# Altium schematic symbol library MSPM0G3507SPMR.SchLib: 1 symbol
Pins are listed as number, name and electrical type; pins without a type are passive.

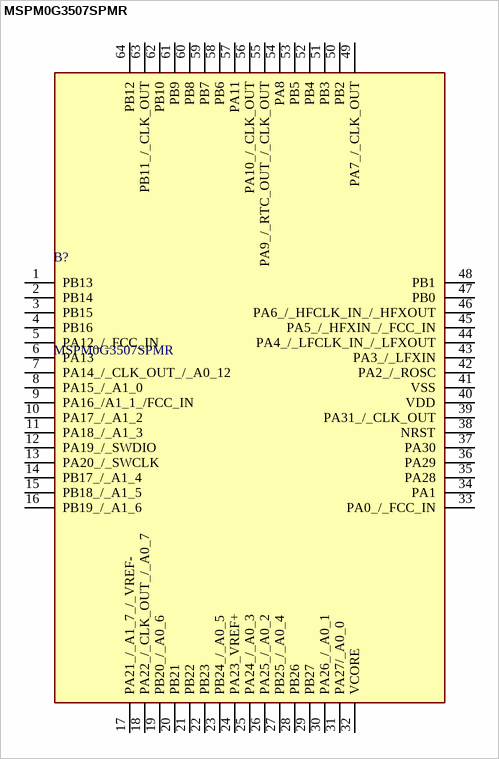
[diagram p0: symbol MSPM0G3507SPMR]

## MSPM0G3507SPMR
designator B?
ARM Microcontrollers - MCU 80MHz Arm M0+ MCU, 128KB Flash, 32KB SRAM, 212bit 4Msps ADC, DAC, 3COMP, 3op-amp, CAN-FD, MATHACL 64-LQFP -40 to 125; Manufacturer_Name: Texas Instruments; Geometry.Height: 1.6mm; Mouser Part Number: 595-MSPM0G3507SPMR; Mouser Price/Stock: https://www.mouser.co.uk/ProductDetail/Texas-Instruments/MSPM0G3507SPMR?qs=ST9lo4GX8V0tukxOtqK%252B6A%3D%3D; Manufacturer_Part_Number: MSPM0G3507SPMR; Datasheet Link: https://www.ti.com/lit/ds/symlink/mspm0g3505.pdf?ts=1706855132968
footprint QFP50P1200X1200X160-64N
pins: 1 PB13, 2 PB14, 3 PB15, 4 PB16, 5 PA12_/_FCC_IN, 6 PA13, 7 PA14_/_CLK_OUT_/_A0_12, 8 PA15_/_A1_0, 9 PA16_/A1_1_/FCC_IN, 10 PA17_/_A1_2, 11 PA18_/_A1_3, 12 PA19_/_SWDIO, 13 PA20_/_SWCLK, 14 PB17_/_A1_4, 15 PB18_/_A1_5, 16 PB19_/_A1_6, 17 PA21_/_A1_7_/_VREF-, 18 PA22_/_CLK_OUT_/_A0_7, 19 PB20_/_A0_6, 20 PB21, 21 PB22, 22 PB23, 23 PB24_/_A0_5, 24 PA23_VREF+, 25 PA24_/_A0_3, 26 PA25_/_A0_2, 27 PB25_/_A0_4, 28 PB26, 29 PB27, 30 PA26_/_A0_1, 31 PA27/_A0_0, 32 VCORE, 33 PA0_/_FCC_IN, 34 PA1, 35 PA28, 36 PA29, 37 PA30, 38 NRST, 39 PA31_/_CLK_OUT, 40 VDD, 41 VSS, 42 PA2_/_ROSC, 43 PA3_/_LFXIN, 44 PA4_/_LFCLK_IN_/_LFXOUT, 45 PA5_/_HFXIN_/_FCC_IN, 46 PA6_/_HFCLK_IN_/_HFXOUT, 47 PB0, 48 PB1, 49 PA7_/_CLK_OUT, 50 PB2, 51 PB3, 52 PB4, 53 PB5, 54 PA8, 55 PA9_/_RTC_OUT_/_CLK_OUT, 56 PA10_/_CLK_OUT, 57 PA11, 58 PB6, 59 PB7, 60 PB8, 61 PB9, 62 PB10, 63 PB11_/_CLK_OUT, 64 PB12